# Altium integrated library WL-SWTP SMD White Top View PLCC LED.IntLib: 15 symbols
Pins are listed as number, name and electrical type; pins without a type are passive.

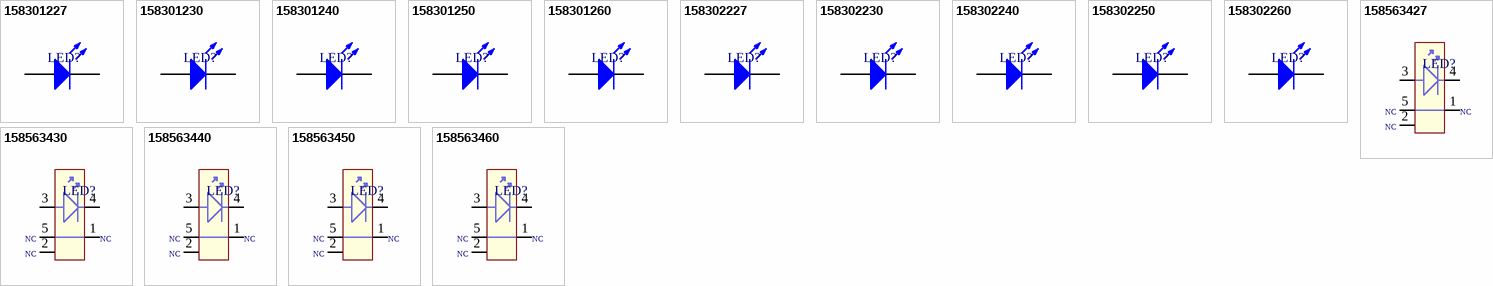
[diagram p0: symbols 158301227 to 158563460]

## 158301227
designator LED?
SMD White Top View PLCC LED, WL-SWTP , Sunrise; PartNumber: 158301227; PackageReference: Type 3014; Emitting color: Sunrise; ComponentLink1Description: Manufacturer URL; ComponentLink1URL: http://www.we-online.com; ComponentLink2Description: Datasheet; ComponentLink2URL: http://katalog.we-online.de/pbs/datasheet/7448042001.pdfhttp://katalog.we-online.de/pbs/datasheet/7448042001.pdfhttp://katalog.we-online.de/pbs/datasheet/7448042001.pdfhttp://katalog.we-online.de/pbs/datasheet/158301227.pdf
footprint Type 3014 (SMD-LED 2pin- Body 3mmx1.4mm)
pins: 1 K, 2 A

## 158301230
designator LED?
SMD White Top View PLCC LED, WL-SWTP , Warm White; PartNumber: 158301230; PackageReference: Type 3014; Emitting color: Warm White; ComponentLink1Description: Manufacturer URL; ComponentLink1URL: http://www.we-online.com; ComponentLink2Description: Datasheet; ComponentLink2URL: http://katalog.we-online.de/pbs/datasheet/7448042001.pdfhttp://katalog.we-online.de/pbs/datasheet/7448042001.pdfhttp://katalog.we-online.de/pbs/datasheet/7448042001.pdfhttp://katalog.we-online.de/pbs/datasheet/158301230.pdf
footprint Type 3014 (SMD-LED 2pin- Body 3mmx1.4mm)
pins: 1 K, 2 A

## 158301240
designator LED?
SMD White Top View PLCC LED, WL-SWTP , Moonlight; PartNumber: 158301240; PackageReference: Type 3014; Emitting color: Moonlight; ComponentLink1Description: Manufacturer URL; ComponentLink1URL: http://www.we-online.com; ComponentLink2Description: Datasheet; ComponentLink2URL: http://katalog.we-online.de/pbs/datasheet/7448042001.pdfhttp://katalog.we-online.de/pbs/datasheet/7448042001.pdfhttp://katalog.we-online.de/pbs/datasheet/7448042001.pdfhttp://katalog.we-online.de/pbs/datasheet/158301240.pdf
footprint Type 3014 (SMD-LED 2pin- Body 3mmx1.4mm)
pins: 1 K, 2 A

## 158301250
designator LED?
SMD White Top View PLCC LED, WL-SWTP , Daylight; PartNumber: 158301250; PackageReference: Type 3014; Emitting color: Daylight; ComponentLink1Description: Manufacturer URL; ComponentLink1URL: http://www.we-online.com; ComponentLink2Description: Datasheet; ComponentLink2URL: http://katalog.we-online.de/pbs/datasheet/7448042001.pdfhttp://katalog.we-online.de/pbs/datasheet/7448042001.pdfhttp://katalog.we-online.de/pbs/datasheet/7448042001.pdfhttp://katalog.we-online.de/pbs/datasheet/158301250.pdf
footprint Type 3014 (SMD-LED 2pin- Body 3mmx1.4mm)
pins: 1 K, 2 A

## 158301260
designator LED?
SMD White Top View PLCC LED, WL-SWTP , Cool White; PartNumber: 158301260; PackageReference: Type 3014; Emitting color: Cool White; ComponentLink1Description: Manufacturer URL; ComponentLink1URL: http://www.we-online.com; ComponentLink2Description: Datasheet; ComponentLink2URL: http://katalog.we-online.de/pbs/datasheet/7448042001.pdfhttp://katalog.we-online.de/pbs/datasheet/7448042001.pdfhttp://katalog.we-online.de/pbs/datasheet/7448042001.pdfhttp://katalog.we-online.de/pbs/datasheet/158301260.pdf
footprint Type 3014 (SMD-LED 2pin- Body 3mmx1.4mm)
pins: 1 K, 2 A

## 158302227
designator LED?
SMD White Top View PLCC LED, WL-SWTP , Sunrise; PartNumber: 158302227; PackageReference: Type 3022; Emitting color: Sunrise; ComponentLink1Description: Manufacturer URL; ComponentLink1URL: http://www.we-online.com; ComponentLink2Description: Datasheet; ComponentLink2URL: http://katalog.we-online.de/pbs/datasheet/7448042001.pdfhttp://katalog.we-online.de/pbs/datasheet/7448042001.pdfhttp://katalog.we-online.de/pbs/datasheet/7448042001.pdfhttp://katalog.we-online.de/pbs/datasheet/158302227.pdf
footprint Type 3022 (SMD-LED 2pin- Body 3mmx2.1mm)
pins: 1 K, 2 A

## 158302230
designator LED?
SMD White Top View PLCC LED, WL-SWTP , Warm White; PartNumber: 158302230; PackageReference: Type 3022; Emitting color: Warm White; ComponentLink1Description: Manufacturer URL; ComponentLink1URL: http://www.we-online.com; ComponentLink2Description: Datasheet; ComponentLink2URL: http://katalog.we-online.de/pbs/datasheet/7448042001.pdfhttp://katalog.we-online.de/pbs/datasheet/7448042001.pdfhttp://katalog.we-online.de/pbs/datasheet/7448042001.pdfhttp://katalog.we-online.de/pbs/datasheet/158302230.pdf
footprint Type 3022 (SMD-LED 2pin- Body 3mmx2.1mm)
pins: 1 K, 2 A

## 158302240
designator LED?
SMD White Top View PLCC LED, WL-SWTP , Moonlight; PartNumber: 158302240; PackageReference: Type 3022; Emitting color: Moonlight; ComponentLink1Description: Manufacturer URL; ComponentLink1URL: http://www.we-online.com; ComponentLink2Description: Datasheet; ComponentLink2URL: http://katalog.we-online.de/pbs/datasheet/7448042001.pdfhttp://katalog.we-online.de/pbs/datasheet/7448042001.pdfhttp://katalog.we-online.de/pbs/datasheet/7448042001.pdfhttp://katalog.we-online.de/pbs/datasheet/158302240.pdf
footprint Type 3022 (SMD-LED 2pin- Body 3mmx2.1mm)
pins: 1 K, 2 A

## 158302250
designator LED?
SMD White Top View PLCC LED WL-SWTP , Daylight; PartNumber: 158302250; PackageReference: Type 3022; Emitting color: Daylight; ComponentLink1Description: Manufacturer URL; ComponentLink1URL: http://www.we-online.com; ComponentLink2Description: Datasheet; ComponentLink2URL: http://katalog.we-online.de/pbs/datasheet/7448042001.pdfhttp://katalog.we-online.de/pbs/datasheet/7448042001.pdfhttp://katalog.we-online.de/pbs/datasheet/7448042001.pdfhttp://katalog.we-online.de/pbs/datasheet/158302250.pdf
footprint Type 3022 (SMD-LED 2pin- Body 3mmx2.1mm)
pins: 1 K, 2 A

## 158302260
designator LED?
SMD White Top View PLCC LED, WL-SWTP , Cool White; PartNumber: 158302260; PackageReference: Type 3022; Emitting color: Cool White; ComponentLink1Description: Manufacturer URL; ComponentLink1URL: http://www.we-online.com; ComponentLink2Description: Datasheet; ComponentLink2URL: http://katalog.we-online.de/pbs/datasheet/7448042001.pdfhttp://katalog.we-online.de/pbs/datasheet/7448042001.pdfhttp://katalog.we-online.de/pbs/datasheet/7448042001.pdfhttp://katalog.we-online.de/pbs/datasheet/158302260.pdf
footprint Type 3022 (SMD-LED 2pin- Body 3mmx2.1mm)
pins: 1 K, 2 A

## 158563427
designator LED?
SMD White Top View PLCC LED, WL-SWTP , Sunrise; PartNumber: 158563427; PackageReference: Type 5630; Emitting color: Sunrise; ComponentLink1Description: Manufacturer URL; ComponentLink1URL: http://www.we-online.com; ComponentLink2Description: Datasheet; ComponentLink2URL: http://katalog.we-online.de/pbs/datasheet/7448042001.pdfhttp://katalog.we-online.de/pbs/datasheet/7448042001.pdfhttp://katalog.we-online.de/pbs/datasheet/7448042001.pdfhttp://katalog.we-online.de/pbs/datasheet/158563427.pdf
footprint Type 5630 (SMD-LED 5pin- Body 5.7mmx3mm)
pins: 1 NC, 2 NC, 3 A, 4 K, 5 NC

## 158563430
designator LED?
SMD White Top View PLCC LED, WL-SWTP , Warm White; PartNumber: 158563430; PackageReference: Type 5630; Emitting color: Warm White; ComponentLink1Description: Manufacturer URL; ComponentLink1URL: http://www.we-online.com; ComponentLink2Description: Datasheet; ComponentLink2URL: http://katalog.we-online.de/pbs/datasheet/7448042001.pdfhttp://katalog.we-online.de/pbs/datasheet/7448042001.pdfhttp://katalog.we-online.de/pbs/datasheet/7448042001.pdfhttp://katalog.we-online.de/pbs/datasheet/158563430.pdf
footprint Type 5630 (SMD-LED 5pin- Body 5.7mmx3mm)
pins: 1 NC, 2 NC, 3 A, 4 K, 5 NC

## 158563440
designator LED?
SMD White Top View PLCC LED, WL-SWTP , Moonlight; PartNumber: 158563440; PackageReference: Type 5630; Emitting color: Moonlight; ComponentLink1Description: Manufacturer URL; ComponentLink1URL: http://www.we-online.com; ComponentLink2Description: Datasheet; ComponentLink2URL: http://katalog.we-online.de/pbs/datasheet/7448042001.pdfhttp://katalog.we-online.de/pbs/datasheet/7448042001.pdfhttp://katalog.we-online.de/pbs/datasheet/7448042001.pdfhttp://katalog.we-online.de/pbs/datasheet/158563440.pdf
footprint Type 5630 (SMD-LED 5pin- Body 5.7mmx3mm)
pins: 1 NC, 2 NC, 3 A, 4 K, 5 NC

## 158563450
designator LED?
SMD White Top View PLCC LED, WL-SWTP , Daylight; PartNumber: 158563450; PackageReference: Type 5630; Emitting color: Daylight; ComponentLink1Description: Manufacturer URL; ComponentLink1URL: http://www.we-online.com; ComponentLink2Description: Datasheet; ComponentLink2URL: http://katalog.we-online.de/pbs/datasheet/7448042001.pdfhttp://katalog.we-online.de/pbs/datasheet/7448042001.pdfhttp://katalog.we-online.de/pbs/datasheet/7448042001.pdfhttp://katalog.we-online.de/pbs/datasheet/158563450.pdf
footprint Type 5630 (SMD-LED 5pin- Body 5.7mmx3mm)
pins: 1 NC, 2 NC, 3 A, 4 K, 5 NC

## 158563460
designator LED?
SMD White Top View PLCC LED, WL-SWTP , Cool White; PartNumber: 158563460; PackageReference: Type 5630; Emitting color: Cool White; ComponentLink1Description: Manufacturer URL; ComponentLink1URL: http://www.we-online.com; ComponentLink2Description: Datasheet; ComponentLink2URL: http://katalog.we-online.de/pbs/datasheet/7448042001.pdfhttp://katalog.we-online.de/pbs/datasheet/7448042001.pdfhttp://katalog.we-online.de/pbs/datasheet/7448042001.pdfhttp://katalog.we-online.de/pbs/datasheet/158563460.pdf
footprint Type 5630 (SMD-LED 5pin- Body 5.7mmx3mm)
pins: 1 NC, 2 NC, 3 A, 4 K, 5 NC